# Altium schematic symbol library electromechanics.SchLib: 10 symbols
Pins are listed as number, name and electrical type; pins without a type are passive.

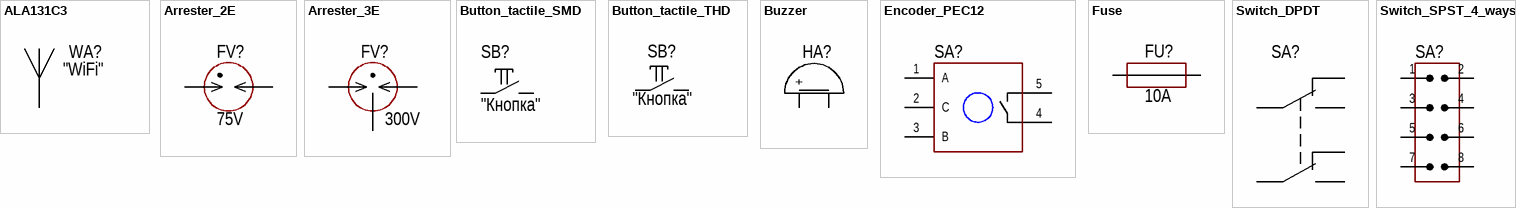
[diagram p0: symbols ALA131C3 to Switch_SPST_4_ways]

## ALA131C3
designator WA?  CommentText: "WiFi"
SMD antenna; Manufacturer: Amotech; ValueManufacturerPartNumber: SMD Antenna, 2.4 GHz, 2.8 dBi; PartNumber: ALA131C3; Frequency: 2.4 GHz; Power: 2.8 dBi; HelpURL: https://www.electronshik.ru/item/AMOTECH/ALA131C3; Type: SMD Antenna
footprint ANT: ALA131C3
pins: 1

## Arrester_2E
designator FV?  DCSparkover: 75V
2 Electrode Surge Arrester; Manufacturer: TDK; ValueManufacturerPartNumber: 2 Electrode Surge Arrester, 10kA, 75V, 6.05x8mm, -40...+90°C; PartNumber: B88069X0180S102; PeakPulseCurrent: 10kA; Package: 6.05x8mm; HelpURL: https://www.mouser.com/ProductDetail/EPCOS-TDK/B88069X0180S102?qs=0ZUpllj3bsaaHiBAlrzRAg%3D%3D; TypeFuse: 2 Electrode Surge Arrester; Temperature: -40...+90°C
footprint SAR_1270-810X622 (Surge Arrester,Axial Diameter, Leads Spacing 12.7mm, D8.1mm x L 6.22)
footprint SAR_BOURNS_2027-xx-SM (2-electrode Precision Gas Discharge Tube Surge Protector Body D7.93mm x L6.42mm)
footprint SAR_BOURNS_2031-xxT-SM (2-Electrode Miniature Fast Acting Surge Arrestor ,Body D5mm x L4.4mm)
footprint SAR_BOURNS_2095-(80-450)-B (High Voltage 2-Electrode Gas Discharge Tube, Leads Spacing 16.5mm, D8mm x L 8, 2095 Series Model 80 Thru 450 Lead Diameter 0.8mm)
footprint SAR_LITTELFUSE_CG5xxxMS (2-electrode Gas Discharge Tube Surge Protector Body D5.4mm x L5.0mm)
footprint SAR_LITTELFUSE_SE (2-electrode Gas Discharge Tube Surge Protector Body 3.2mm L x 1.6mm W)
footprint SAR_SIEMENS_B2-B600 Q69-X154 (Surge Arrester, Axial Diameter, Leads Spacing 12.7mm, D9.15mm x L 6.5mm)
footprint SAR_TDK_A81-A230X (Surge Arrester,Axial Diameter, Leads Spacing 12.7mm, D8.2mm x L 6.25)
footprint SAR_TDK_A81-C90X (Surge Arrester,Axial Diameter, Leads Spacing 12.7mm, D8.2mm x L 6.25)
footprint SAR_TDK_EC90X (Surge Arrester,Axial Diameter, Leads Spacing 12.7mm, D8.2mm x L 6.25)
pins: 1, 2

## Arrester_3E
designator FV?  DCSparkover: 300V
3 Electrode Surge Arrester; Manufacturer: Bourns; ValueManufacturerPartNumber: 3 Electrode Surge Arrester, 20kA, 300V, 5x7.5mm, -55...+105°C; PartNumber: 2036-30-B; PeakPulseCurrent: 20kA; Package: 5x7.5mm; HelpURL: https://www.mouser.com/ProductDetail/Bourns/2036-30-B?qs=TKZlI%2F%252BrNwia%2FCLcU6JU2A%3D%3D; TypeFuse: 3 Electrode Surge Arrester; Temperature: -55...+105°C
footprint SAR_BOURNS_2036-XX-B2 (Miniature 3-Poles Gas Discharge Tube Body D5.1 mm x L7.55 mm)
footprint SAR_BOURNS_2036-xx-SM (3-electrode Precision Gas Discharge Tube Surge Protector Body D5 mm x L7.3 mm)
pins: 1, 2, 3

## Button_tactile_SMD
designator SB?  CommentText: "Кнопка"
Manufacturer: xin cheng electronic; PartNumber: 3*4*2 2PIN; HelpURL: https://aliexpress.ru/item/32309509976.html?spm=a2g0v.12010612.8148356.51.441f61b1yUlL0Q; ValueManufacturerPartNumber: =TypeButton+', '+Package; Package: 3*4*2mm
footprint PB_3x4x2_SMD
footprint PB_6x3.5_SMD
footprint PB_6x6_SMD (Leaded Tactile Button 6x6)
footprint PB_ALPS_SKQGADE010
footprint PB_WURTH_436333045822
pins: 1, 2

## Button_tactile_THD
designator SB?  CommentText: "Кнопка"
Manufacturer: TE Connectivity; ValueManufacturerPartNumber: Tactile button, 6x6mm; PartNumber: FSM2JSMAATR; TypeButton: Tactile button; HelpURL: https://www.digikey.com/product-detail/en/te-connectivity-alcoswitch-switches/FSM2JSMAATR/450-1792-1-ND/3503931; Package: 6x6mm
footprint PB_6x3.5_THD
footprint PB_6x6_THD (Leaded Tactile Button 6x6)
pins: 1, 2

## Buzzer
designator HA?
Manufacturer: PUI Audio; ValueManufacturerPartNumber: DIP switch, 2.73 kHz, 3VDC, 80mA, -20...+70°C; PartNumber: AT-0927-TT-6-R; TypeBuzzer: DIP switch; VoltageMax: 3VDC; Frequency: 2.73 kHz; CurrentMax: 80mA; HelpURL: https://www.digikey.com/products/en?keywords=AT-0927-TT-6-R; Temperature: -20...+70°C
footprint BUZ: AI-1223-TWT-3V-2-R
footprint BUZ: AT-0927-TT-6-R
footprint BUZ: CMT-7525
pins: 1 +, 2 -

## Encoder_PEC12
designator SA?
Manufacturer: Bourns; ValueManufacturerPartNumber: Quadrature encoder, PEC12R; PartNumber: PEC12R-4115F-S0012; TypeEncoder: Quadrature encoder; SeriesEncoder: PEC12R; HelpURL: https://www.digikey.com/product-detail/en/bourns-inc/PEC12R-4115F-S0012/PEC12R-4115F-S0012-ND/6153386
footprint EC_BOURNS_PEC-12
pins: 1 A, 2 C, 3 B, 4, 5

## Fuse
designator FU?  MaxCurrent: 10A
Manufacturer: Littelfuse; PartNumber: 01110501Z; TypeFuse: Electromechanics relay; VoltageMax: 250VAC; Package: 5x20mm; HelpURL: https://www.digikey.com/products/en?keywords=01110501Z; ValueManufacturerPartNumber: =TypeFuse+', '+VoltageMax+', '+MaxCurrent+', '+Package+', '+Temperature
footprint FUSE_THD_0ADBP3000-RE
footprint FUSE_SMD_0679H (BelFuse)
footprint FUSE_THD_01110501Z (5x20 mm)
footprint FUSE_THD_CQ-216
footprint FUSE_THD_FC-001S
footprint FUSE_THD_FH-100 (5x20 mm)
footprint FUSE_THD_FH-101 (Fuse connector PCB mount)
footprint FUSE_PTC_1206
footprint FUSE_PTC_1812
footprint FUSE_PTC_0603
pins: 1, 2

## Switch_DPDT
designator SA?
Manufacturer: C&K Switches; ValueManufacturerPartNumber: Slide Switches, DPDT, 30VDC, 300mA, -20...+70°C; PartNumber: JS202011SCQN; TypeButton: Slide Switches; VoltageMax: 30VDC; CurrentMax: 300mA; Multichannel: DPDT; HelpURL: https://eu.mouser.com/ProductDetail/CK/JS202011SCQN?qs=LgMIjt8LuD95JYWxZ7NvZA%3D%3D; Temperature: -20...+70°C
footprint SW_C&K_JS202011CQN (Body 9x3.6mm, DPDT Vertical Slide Subminiature Switch, Thru-Hole Mount, JS Series)
footprint SW_C&K_JS202011SCQN (Body 9x3.6mm, DPDT Vertical Slide Subminiature Switch, Surface Mount, JS Series)
pins: 1, 2, 3, 4, 5, 6

## Switch_SPST_4_ways
designator SA?
Manufacturer: TE Connectivity; ValueManufacturerPartNumber: DIP switch, 4pin, 24VDC, 25mA, -40...+85°C; PartNumber: 418117270904; TypeButton: DIP switch; VoltageMax: 24VDC; CurrentMax: 25mA; Multichannel: 4pin; HelpURL: https://www.digikey.com/product-detail/en/te-connectivity-alcoswitch-switches/FSM2JSMAATR/450-1792-1-ND/3503931; Temperature: -40...+85°C
footprint PB_WURTH_418117270904
pins: 1 IN, 2 IN, 3 IN, 4 IN, 5 IN, 6 IN, 7 IN, 8 IN